# Altium integrated library IN-PI554FCH.IntLib: 1 symbol
Pins are listed as number, name and electrical type; pins without a type are passive.

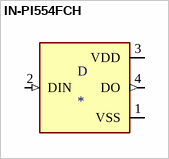
[diagram p0: symbol IN-PI554FCH]

## IN-PI554FCH
designator D
Addressable Lighting IN-PI554FCH 1 LED Discrete PWM Red, Green, Blue _RGB_ 5.00mm L x 5.00mm W; MF: Inolux; Value: *; MP: IN-PI554FCH; Package: SMD-4 Innolux; SnapEDA_Link: https://www.snapeda.com/parts/IN-PI554FCH/Inolux/view-part/696913/?ref=snap; Digi-Key_Part_Number: 1830-1106-1-ND; Digi-Key_Purchase_URL: https://www.digikey.com/product-detail/en/inolux/IN-PI554FCH/1830-1106-1-ND/7604647?utm_source=snapeda&utm_medium=aggregator&utm_campaign=symbol
footprint LED_IN-PI554FCH
pins: 1 VSS (power), 2 DIN (in), 3 VDD (power), 4 DO (out)